# EAGLE library part TPS63060 (library Alberto)
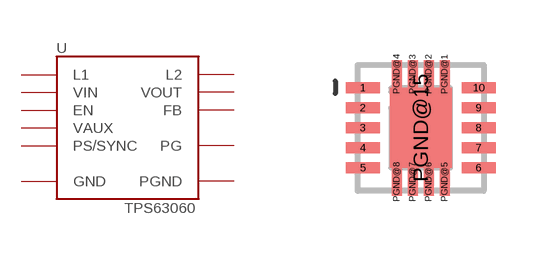
[diagram p4: symbol with the pads of WFDFN-10; footprint WFDFN-10]

Designator prefix -

## TPS63060  [WFDFN-10]
1  L1  pas
2  VIN  pwr
3  EN
4  PS/SYNC  in
5  PG  out
6  VAUX  pwr
7  GND  pwr
8  FB  in
9  VOUT  out
10  L2  pas
PGND@1  PGND  pwr
PGND@2  PGND  pwr
PGND@3  PGND  pwr
PGND@4  PGND  pwr
PGND@5  PGND  pwr
PGND@6  PGND  pwr
PGND@7  PGND  pwr
PGND@8  PGND  pwr
PGND@15  PGND  pwr

## Footprint WFDFN-10 (pad centres in mm)
smd 0.85 x 0.28: 1 -1.45,1; 2 -1.45,0.5; 3 -1.45,0; 4 -1.45,-0.5; 5 -1.45,-1; 6 1.45,-1; 7 1.45,-0.5; 8 1.45,0; 9 1.45,0.5; 10 1.45,1
smd 0.25 x 0.7: PGND@1 0.6,1.346; PGND@2 0.2,1.346; PGND@3 -0.2,1.346; PGND@4 -0.6,1.346; PGND@5 0.6,-1.346; PGND@6 0.2,-1.346; PGND@7 -0.2,-1.346; PGND@8 -0.6,-1.346
smd 1.55 x 2: PGND@15 0,0